# EAGLE library part APDS-9007 (library sensor)
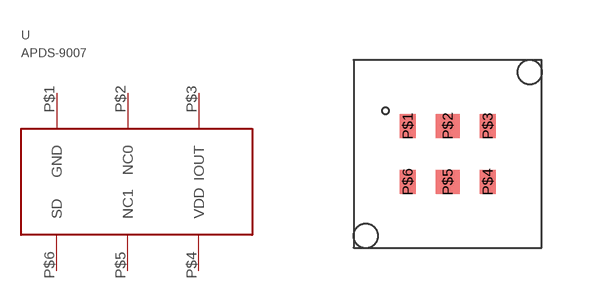
[diagram p1: symbol with the pads of APDS-9007; footprint APDS-9007]

Designator prefix -

## APDS-9007  [APDS-9007]
P$1  GND
P$2  NC0
P$3  IOUT
P$4  VDD
P$5  NC1
P$6  SD

## Footprint APDS-9007 (pad centres in mm)
smd 0.4 x 0.6: P$1 -1,0.7; P$3 1,0.7; P$4 1,-0.7; P$6 -1,-0.7
smd 0.6 x 0.6: P$2 0,0.7; P$5 0,-0.7
hole 0.6 at -2.05,-2.05
hole 0.6 at 2.05,2.05